# EAGLE library part D15S24A4GV00LF (library D-Sub Connectors)
CONN D-SUB RCPT 15POS VERT SLDR Manufacturer's datasheet <https://www.amphenol-icc.com/media/wysiwyg/files/drawing/c01-8646-0815.pdf>
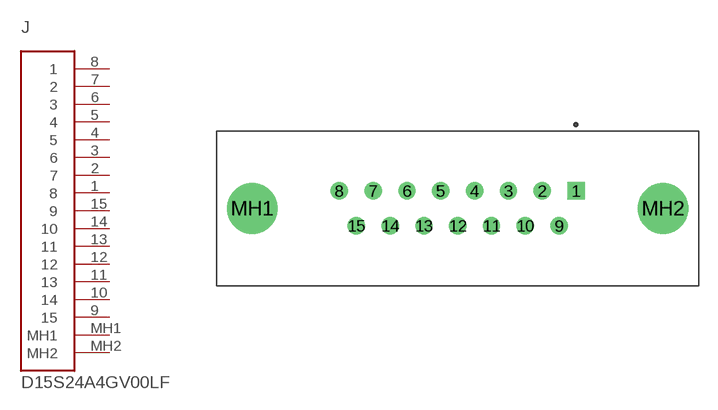
[diagram p22: symbol with the pads of D15S24A4GV00LF; footprint D15S24A4GV00LF]

Designator prefix J

## D15S24A4GV00LF (CREATED_BY: PCBLayout.com; DIGIKEY_PART_NUMBER: 609-1497-ND; MANUFACTURER: Amphenol ICC (FCI); MPN: D15S24A4GV00LF)  [D15S24A4GV00LF]
1  8  pas
2  7  pas
3  6  pas
4  5  pas
5  4  pas
6  3  pas
7  2  pas
8  1  pas
9  15  pas
10  14  pas
11  13  pas
12  12  pas
13  11  pas
14  10  pas
15  9  pas
MH1  MH1  pas
MH2  MH2  pas

## Footprint D15S24A4GV00LF (pad centres in mm)
drill 0.9 square: 1 9.59,1.42
drill 0.9: 2 6.85,1.42; 3 4.11,1.42; 4 1.37,1.42; 5 -1.37,1.42; 6 -4.11,1.42; 7 -6.85,1.42; 8 -9.59,1.42; 9 8.22,-1.42; 10 5.48,-1.42; 11 2.74,-1.42; 12 0,-1.42; 13 -2.74,-1.42; 14 -5.48,-1.42; 15 -8.22,-1.42
drill 3.1: MH1 -16.66,0; MH2 16.66,0